# Altium schematic symbol library RD901F-40-15F-A100K-00DL1.SchLib: 1 symbol
Pins are listed as number, name and electrical type; pins without a type are passive.

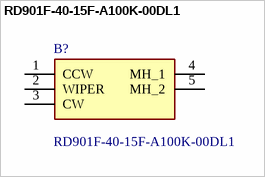
[diagram p0: symbol RD901F-40-15F-A100K-00DL1]

## RD901F-40-15F-A100K-00DL1
designator B?
Potentiometers 9mm Audio 100K Flat Shaft,100M at 250V DC,300V AC 50V AC; Manufacturer_Name: Alpha (Taiwan); Geometry.Height: 25mm; Mouser Part Number: 311-1940F-15F-A100K; Mouser Price/Stock: https://www.mouser.co.uk/ProductDetail/Alpha-Taiwan/RD901F-40-15F-A100K-00DL1?qs=1mbolxNpo8df9DDnn792hQ%3D%3D; Manufacturer_Part_Number: RD901F-40-15F-A100K-00DL1; Datasheet Link: http://www.taiwanalpha.com.tw/downloads?target=products&id=113
footprint RD901F4015FA100K00DL1
pins: 1 CCW, 2 WIPER, 3 CW, 4 MH_1, 5 MH_2